# EAGLE library part 82C84A (library IC)
82C84A Microprocessor Clock Generator
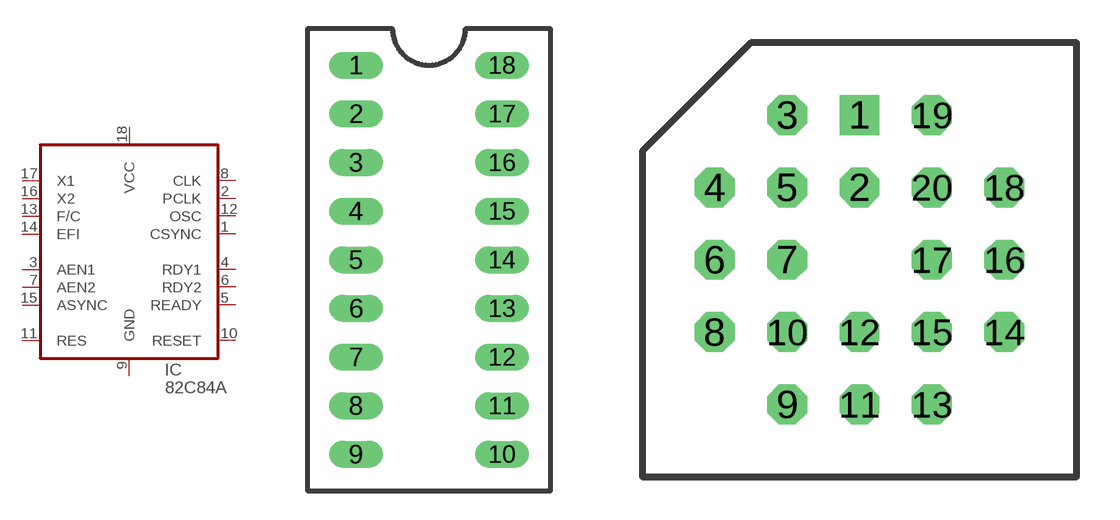
[diagram p22: symbol with the pads of DIP-18; footprints DIP-18, PLCC-20T]

Designator prefix IC

## 82C84AP  [DIP-18]
1  CSYNC
2  PCLK
3  AEN1
4  RDY1
5  READY
6  RDY2
7  AEN2
8  CLK
9  GND  pwr
10  RESET
11  RES
12  OSC
13  F/C
14  EFI
15  ASYNC
16  X2
17  X1
18  VCC  pwr

## 82C84AS  [PLCC-20T]
1  CSYNC
2  PCLK
3  AEN1
4  RDY1
5  READY
6  RDY2
7  AEN2
9  CLK
10  GND  pwr
11  RESET
12  RES
13  OSC
15  F/C
16  EFI
17  ASYNC
18  X2
19  X1
20  VCC  pwr

## Footprint DIP-18 (pad centres in mm)
drill 0.889 long: 1 -3.81,10.16; 2 -3.81,7.62; 3 -3.81,5.08; 4 -3.81,2.54; 5 -3.81,0; 6 -3.81,-2.54; 7 -3.81,-5.08; 8 -3.81,-7.62; 9 -3.81,-10.16; 10 3.81,-10.16; 11 3.81,-7.62; 12 3.81,-5.08; 13 3.81,-2.54; 14 3.81,0; 15 3.81,2.54; 16 3.81,5.08; 17 3.81,7.62; 18 3.81,10.16

## Footprint PLCC-20T (pad centres in mm)
drill 0.889 square: 1 0,5.08
drill 0.889 octagon: 2 0,2.54; 3 -2.54,5.08; 4 -5.08,2.54; 5 -2.54,2.54; 6 -5.08,0; 7 -2.54,0; 8 -5.08,-2.54; 9 -2.54,-5.08; 10 -2.54,-2.54; 11 0,-5.08; 12 0,-2.54; 13 2.54,-5.08; 14 5.08,-2.54; 15 2.54,-2.54; 16 5.08,0; 17 2.54,0; 18 5.08,2.54; 19 2.54,5.08; 20 2.54,2.54